# Altium footprint library PassiveComponents.PcbLib: 57 footprints (part 4 of 4)
Each footprint in its own frame and in the unit in brackets; x right, y up, seen from the top. Pads: shape width x height; smd on the part's side, far side on the other; paste and mask are expansions set on the pad; w line width, h text height; cw(c..) or ccw(c..) is an arc to the next point about the centre after c.
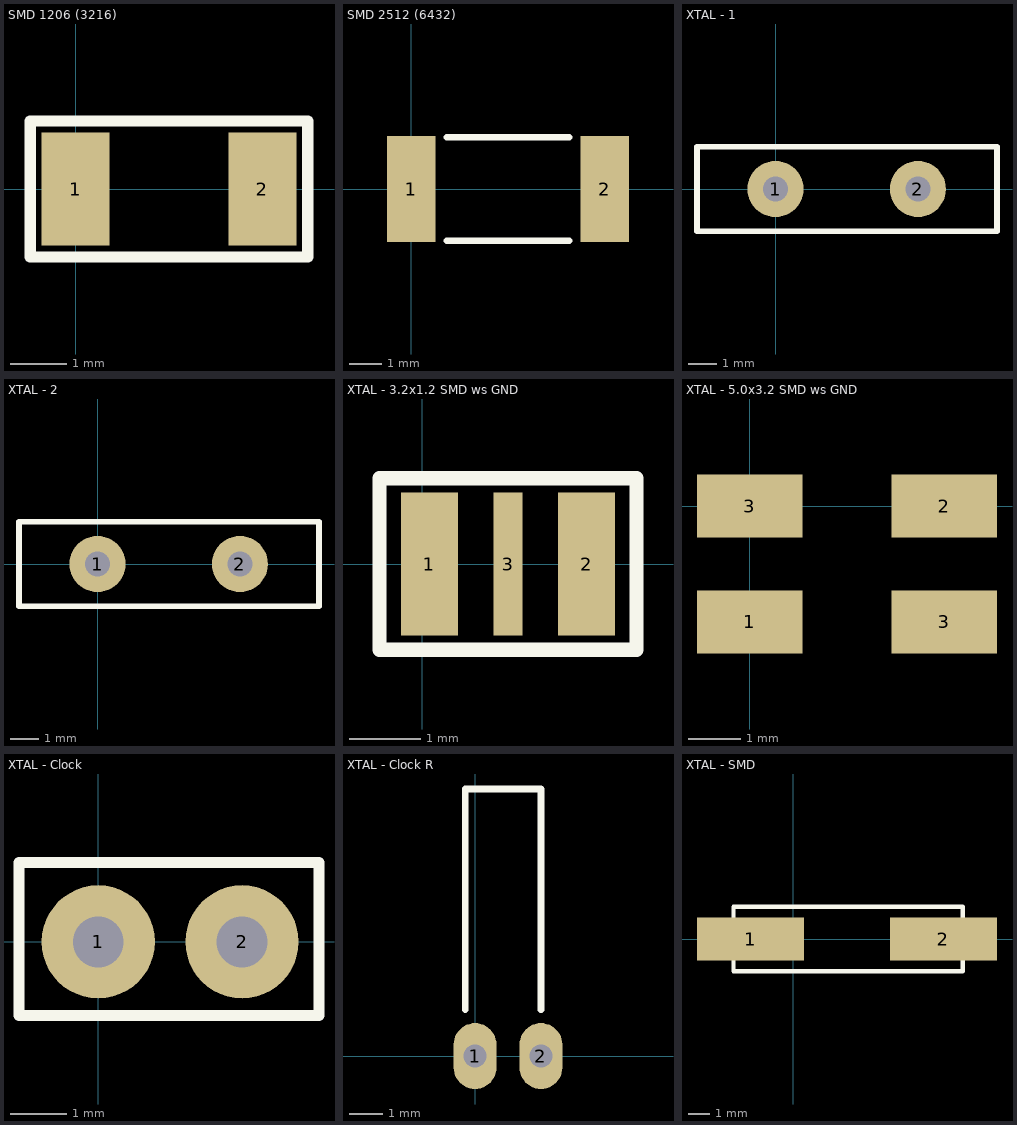
[diagram p3: the footprints below, top view; thin cyan lines are the x and y axes]

## SMD 1206 (3216) [mm]
pads (2):
  rect 1.2x2 smd: 1(0,0) 2(3.3,0)
Top Overlay:
  lines w0.2: -0.8,-1.2 4.1,-1.2 4.1,1.2 -0.8,1.2 -0.8,-1.2
3D body "SMD 1206 (3216).step": height 0.55, standoff 0, extent 0.05,-0.8 3.25,0.8

## SMD 2512 (6432) [mm]
pads (2):
  rect 1.5x3.3 smd: 1(0,0) 2(6,0)
Top Overlay:
  lines w0.2: 1.1,-1.6 4.9,-1.6 ; 1.1,1.6 4.9,1.6
3D body "Residtor SMD 2512 1W.STEP": height 0.6, standoff 0, extent -0.2,-1.6 6.2,1.6

## XTAL - 1 [mm]
pads (2):
  round 2 hole 0.9: 1(0,0) 2(5.08,0)
Top Overlay:
  lines w0.2: -2.8,-1.5 -2.8,1.5 7.9,1.5 7.9,-1.5 -2.8,-1.5
3D body "XTAL1.step": height 11.68, standoff -2.54, extent -2.794,-1.524 7.874,1.524

## XTAL - 2 [mm]
pads (2):
  round 2 hole 0.9: 1(0,0) 2(5.08,0)
Top Overlay:
  lines w0.2: -2.8,-1.5 7.9,-1.5 7.9,1.5 -2.8,1.5 -2.8,-1.5
3D body "XTAL2.step": height 3.09, standoff -2.54, extent -2.794,-1.524 7.874,1.524

## XTAL - 3.2x1.2 SMD ws GND [mm]
pads (3):
  rect 0.8x2 smd: 1(0.1,0) 2(2.3,0)
  rect 0.4x2 smd: 3(1.2,0)
Top Overlay:
  lines w0.2: -0.6,-1.2 -0.6,1.2 3,1.2 3,-1.2 -0.6,-1.2
3D body "Crystal CSCTE SMD 3.2x1.2 (3Pin).STEP": height 1.02, standoff -0.09, extent -0.4,-0.65 2.8,0.65

## XTAL - 5.0x3.2 SMD ws GND [mm]
pads (4):
  rect 2x1.2 smd: 1(0,-2.2) 2(3.7,0) 3(0,0) 3(3.7,-2.2)
3D body "CRYSTAL SMD 5 X 3.2 (4pin).step": height 1, standoff 0, extent -0.65,-2.7 4.35,0.5

## XTAL - Clock [mm]
pads (2):
  round 2 hole 0.9: 1(0,0) 2(2.54,0)
Top Overlay:
  lines w0.2: -1.4,-1.3 3.9,-1.3 3.9,1.4 -1.4,1.4 -1.4,-1.3
3D body "XtAL - Clock - R38.STEP": height 8.2, standoff -3, extent -0.13,-1.05 2.67,1.05

## XTAL - Clock R [mm]
pads (2):
  oval 1.3x2 hole 0.7: 1(0,0) 2(2,0)
Top Overlay:
  lines w0.2: -0.3,1.4 -0.3,8.1 2,8.1 2,1.4
3D body "XTAL - Clock - KX-26.step": height 1.95, standoff -2, extent -0.3,-0.175 2,8.175

## XTAL - SMD [mm]
pads (2):
  rect 5x2 smd: 1(-2,0) 2(7,0)
Top Overlay:
  lines w0.2: -2.8,-1.5 7.9,-1.5 7.9,1.5 -2.8,1.5 -2.8,-1.5
3D body "XTAL - SMD - CSM-7.step": height 4.5, standoff -0.05, extent -3.9,-2.45 8.9,2.55